# Altium footprint library Trans_pcb.PcbLib: 72 footprints (part 5 of 5)
Each footprint in its own frame and in the unit in brackets; x right, y up, seen from the top. Pads: shape width x height; smd on the part's side, far side on the other; paste and mask are expansions set on the pad; w line width, h text height; cw(c..) or ccw(c..) is an arc to the next point about the centre after c.
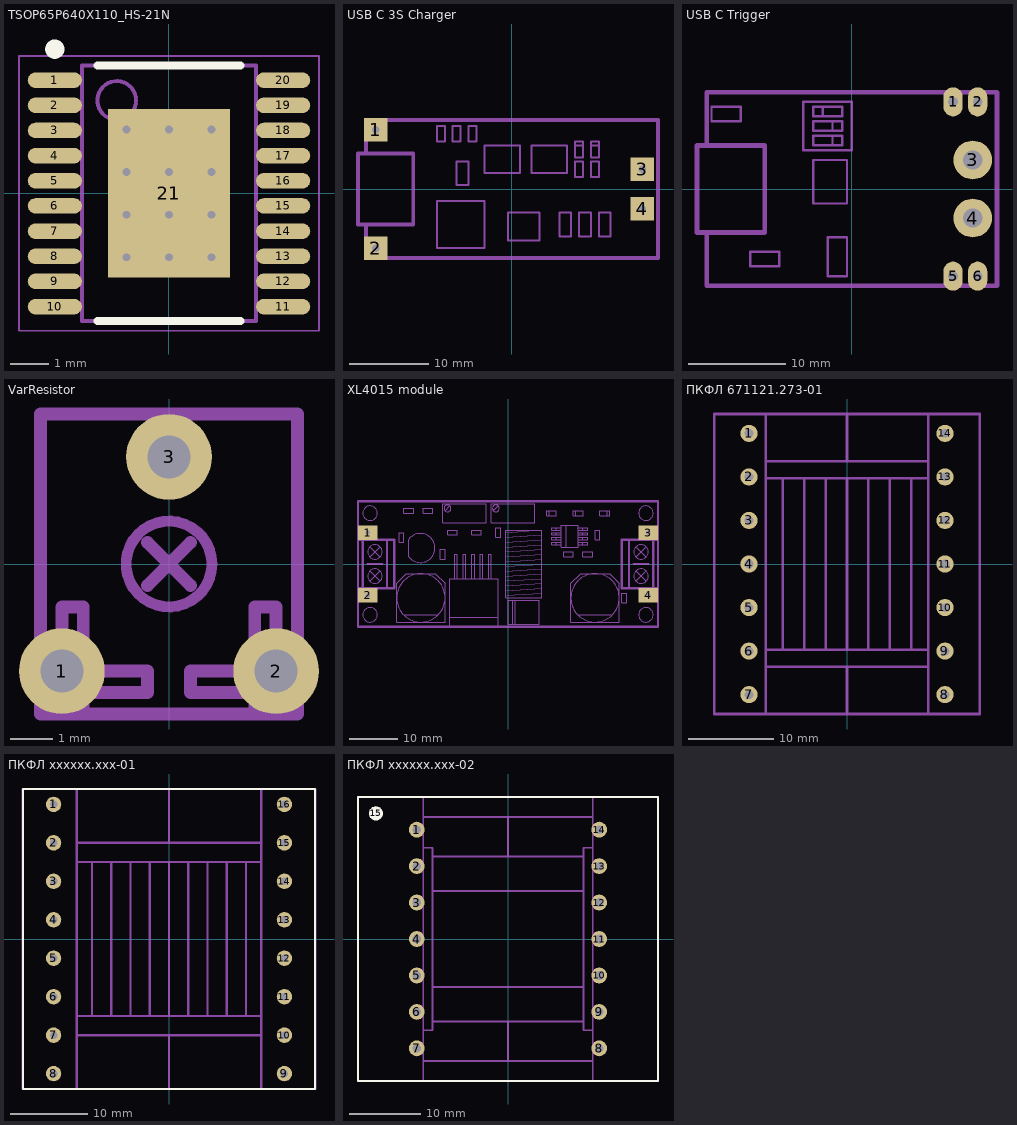
[diagram p4: the footprints below, top view; thin cyan lines are the x and y axes]

## TSOP65P640X110_HS-21N [mm] "TSOP, 20-Leads, Body 6,50x4,40mm, Pitch 0,65mm, Thermal Pad 4,35x3,15mm, IPC Medium Density"
height 1.1
pads (21):
  oval 1.4x0.4 smd: 1(-2.95,2.925) 2(-2.95,2.275) 3(-2.95,1.625) 4(-2.95,0.975) 5(-2.95,0.325) 6(-2.95,-0.325) 7(-2.95,-0.975) 8(-2.95,-1.625) 9(-2.95,-2.275) 10(-2.95,-2.925) 11(2.95,-2.925) 12(2.95,-2.275) 13(2.95,-1.625) 14(2.95,-0.975) 15(2.95,-0.325) 16(2.95,0.325) 17(2.95,0.975) 18(2.95,1.625) 19(2.95,2.275) 20(2.95,2.925)
  rect 3.15x4.35 smd: 21(0,0)
via 0,1.65 diameter 0.5 hole 0.2
via 1.1,1.65 diameter 0.5 hole 0.2
via -1.1,0.55 diameter 0.5 hole 0.2
via 0,0.55 diameter 0.5 hole 0.2
via 1.1,0.55 diameter 0.5 hole 0.2
via -1.1,-0.55 diameter 0.5 hole 0.2
via 0,-0.55 diameter 0.5 hole 0.2
via 1.1,-0.55 diameter 0.5 hole 0.2
via -1.1,-1.65 diameter 0.5 hole 0.2
via 0,-1.65 diameter 0.5 hole 0.2
via 1.1,-1.65 diameter 0.5 hole 0.2
via -1.1,1.65 diameter 0.5 hole 0.2
Top Overlay:
  circle w0.25: c-2.95,3.725 r0.125
  lines w0.2: -1.85,-3.3 1.85,-3.3 ; -1.85,3.3 1.85,3.3
Mechanical 13:
  circle w0.1: c-1.35,2.4 r0.5
  lines w0.1: -2.25,-3.3 -2.25,3.3 2.25,3.3 2.25,-3.3 -2.25,-3.3
Mechanical 15:
  lines w0.05: -3.875,-3.55 -3.875,3.55 3.875,3.55 3.875,-3.55 -3.875,-3.55
  lines w0.1: -0.5,0 0.5,0 ; 0,-0.5 0,0.5
3D body: height 1.1, standoff 0.1, extent -2.25,-3.3 2.25,3.3

## USB C 3S Charger [mm]
pads (4):
  rect 3x3 hole 1 unplated: 1(-17.25,7.5) 2(-17.25,-7.5) 3(16.5,2.5) 4(16.5,-2.5)
Mechanical 13:
  lines w0.25: 8,5.5 9,5.5 ; 10,5.5 11,5.5 ; -9.5,-7.5 -9.5,-1.5 -3.5,-1.5 -3.5,-7.5 -9.5,-7.5 ; -9.5,6 -8.5,6 -8.5,8 -9.5,8 -9.5,6 ; -7.5,6 -6.5,6 -6.5,8 -7.5,8 -7.5,6 ; -7,0.5 -7,3.5 -5.5,3.5 -5.5,0.5 -7,0.5 ; -5.5,6 -4.5,6 -4.5,8 -5.5,8 -5.5,6 ; -3.5,2 -3.5,5.5 1,5.5 1,2 -3.5,2 ; -0.5,-6.5 -0.5,-3 3.5,-3 3.5,-6.5 -0.5,-6.5 ; 2.5,2 2.5,5.5 7,5.5 7,2 2.5,2 ; 6,-6 6,-3 7.5,-3 7.5,-6 6,-6 ; 8,1.5 9,1.5 9,3.5 8,3.5 8,1.5 ; 8,4 9,4 9,6 8,6 8,4 ; 8.5,-6 8.5,-3 10,-3 10,-6 8.5,-6 ; 10,1.5 11,1.5 11,3.5 10,3.5 10,1.5 ; 10,4 11,4 11,6 10,6 10,4 ; 11,-6 11,-3 12.5,-3 12.5,-6 11,-6
  lines w0.5: -18.5,-4.5 -18.5,-8.75 18.5,-8.75 18.5,8.75 -18.5,8.75 -18.5,4.5 ; -19.5,-4.5 -19.5,4.5 -12.5,4.5 -12.5,-4.5 -19.5,-4.5

## USB C Trigger [mm]
pads (6):
  oval 2x3 hole 1 unplated: 1(10.46,9) 2(13,9) 5(10.46,-9) 6(13,-9)
  round 4 hole 2 unplated: 3(12.5,3) 4(12.5,-3)
Mechanical 13:
  lines w0.25: -3,7.5 -3,8.5 ; -2,4.5 -2,5.5 ; -2,6 -2,7 ; -14.5,7 -11.5,7 -11.5,8.5 -14.5,8.5 -14.5,7 ; -10.5,-8 -10.5,-6.5 -7.5,-6.5 -7.5,-8 -10.5,-8 ; -5,4 0,4 0,9 -5,9 -5,4 ; -4,-1.5 -4,3 -0.5,3 -0.5,-1.5 -4,-1.5 ; -4,4.5 -4,5.5 -1,5.5 -1,4.5 -4,4.5 ; -4,6 -4,7 -1,7 -1,6 -4,6 ; -4,7.5 -4,8.5 -1,8.5 -1,7.5 -4,7.5 ; -2.5,-9 -0.5,-9 -0.5,-5 -2.5,-5 -2.5,-9
  lines w0.5: -15,-4.5 -15,-10 15,-10 15,10 -15,10 -15,4.5 ; -16,-4.5 -16,4.5 -9,4.5 -9,-4.5 -16,-4.5

## VarResistor [mm]
height 3
pads (3):
  round 2 hole 1: 1(-2.5,-2.5) 2(2.5,-2.5) 3(0,2.5)
Mechanical 13:
  circle w0.254: c0,0 r1
  lines w0.3: -2.5,-3.5 -2.5,-1 -2,-1 -2,-2.5 -0.5,-2.5 -0.5,-3 -2,-3 -2,-3.5 ; -0.5,-0.5 0.5,0.5 ; -0.5,0.5 0.5,-0.5 ; 2,-3.5 2,-3 0.5,-3 0.5,-2.5 2,-2.5 2,-1 2.5,-1 2.5,-3.5 ; -3,-3.5 -3,3.5 3,3.5 3,-3.5 -3,-3.5

## XL4015 module [mm]
pads (4):
  rect 4x3 hole 1 unplated: 1(-29,6.5) 2(-29,-6.5) 3(29,6.5) 4(29,-6.5)
Mechanical 13:
  drawing of 207 lines, arcs and shapes, not listed
  text "R" at 8.5,11.5 h1.5
  text "B" at 14,11.5 h1.5
  text "G" at 19.5,11.517 h1.5

## ПКФЛ 671121.273-01 [mm]
pads (14):
  round 2 hole 1: 1(-11.43,15.24) 2(-11.43,10.16) 3(-11.43,5.08) 4(-11.43,0) 5(-11.43,-5.08) 6(-11.43,-10.16) 7(-11.43,-15.24) 8(11.43,-15.24) 9(11.43,-10.16) 10(11.43,-5.08) 11(11.43,0) 12(11.43,5.08) 13(11.43,10.16) 14(11.43,15.24)
Mechanical 13:
  lines w0.3: -9.5,-17.5 -9.5,17.5 ; -9.5,-12 9.5,-12 ; -9.5,-10 9.5,-10 ; -9.5,10 9.5,10 ; -9.5,12 9.5,12 ; -7.5,-10 -7.5,10 ; -5,-10 -5,10 ; -2.5,-10 -2.5,10 ; 0,-17.5 0,-12 ; 0,-10 0,10 ; 0,12 0,17.5 ; 2.5,-10 2.5,10 ; 5,-10 5,10 ; 7.5,-10 7.5,10 ; 9.5,-17.5 9.5,17.5 ; -15.5,-17.5 15.5,-17.5 15.5,17.5 -15.5,17.5 -15.5,-17.5

## ПКФЛ хххххх.ххх-01 [mm]
height 27
pads (16):
  round 2 hole 1: 1(-15,17.5) 2(-15,12.5) 3(-15,7.5) 4(-15,2.5) 5(-15,-2.5) 6(-15,-7.5) 7(-15,-12.5) 8(-15,-17.5) 9(15,-17.5) 10(15,-12.5) 11(15,-7.5) 12(15,-2.5) 13(15,2.5) 14(15,7.5) 15(15,12.5) 16(15,17.5)
Top Overlay:
  lines w0.25: -19,-19.5 -19,19.5 19,19.5 19,-19.5 -19,-19.5
Mechanical 13:
  lines w0.25: -10,-10 -10,10 ; 10,-10 10,10
  lines w0.3: -12,-19.5 -12,19.5 ; -12,-12.5 12,-12.5 ; -12,-10 12,-10 ; -12,10 12,10 ; -12,12.5 12,12.5 ; -7.5,-10 -7.5,10 ; -5,-10 -5,10 ; -2.5,-10 -2.5,10 ; 0,-19.5 0,-12.5 ; 0,-10 0,10 ; 0,12.5 0,19.5 ; 2.5,-10 2.5,10 ; 5,-10 5,10 ; 7.5,-10 7.5,10 ; 12,-19.5 12,19.5 ; -19,-19.5 19,-19.5 19,19.5 -19,19.5 -19,-19.5

## ПКФЛ хххххх.ххх-02 [mm]
pads (15):
  round 2.2 hole 1.2: 1(-12.7,15.24) 2(-12.7,10.16) 3(-12.7,5.08) 4(-12.7,0) 5(-12.7,-5.08) 6(-12.7,-10.16) 7(-12.7,-15.24) 8(12.7,-15.24) 9(12.7,-10.16) 10(12.7,-5.08) 11(12.7,0) 12(12.7,5.08) 13(12.7,10.16) 14(12.7,15.24)
  round 2 on Top Overlay: 15(-18.4,17.5)
Top Overlay:
  lines w0.25: -20.9,-19.8 -20.9,19.8 20.9,19.8 20.9,-19.8 -20.9,-19.8
Mechanical 13:
  lines w0.25: -11.8,-19.8 -11.8,-12.7 ; -11.8,-17 11.8,-17 ; -11.8,17 11.8,17 ; -11.8,19.8 -11.8,12.7 ; -10.5,-11.5 10.5,-11.5 ; -10.5,11.5 10.5,11.5 ; 0,-17 0,-11.5 ; 0,11.5 0,17 ; 11.8,-19.8 11.8,-12.7 ; 11.8,19.8 11.8,12.7 ; -11.8,-12.7 -10.5,-12.7 -10.5,-6.7 ; -11.8,-12.7 -11.8,12.7 ; -11.8,12.7 -10.5,12.7 -10.5,6.7 ; -10.5,-6.7 10.5,-6.7 ; -10.5,-6.7 -10.5,6.7 ; -10.5,6.7 10.5,6.7 ; 10.5,-6.7 10.5,-12.7 11.8,-12.7 ; 10.5,-6.7 10.5,6.7 ; 10.5,6.7 10.5,12.7 11.8,12.7 ; 11.8,-12.7 11.8,12.7 ; -20.9,-19.8 20.9,-19.8 20.9,19.8 -20.9,19.8 -20.9,-19.8